# Altium footprint library NCP5623_LLGA12.PcbLib: 1 footprints
Each footprint in its own frame and in the unit in brackets; x right, y up, seen from the top. Pads: shape width x height; smd on the part's side, far side on the other; paste and mask are expansions set on the pad; w line width, h text height; cw(c..) or ccw(c..) is an arc to the next point about the centre after c.
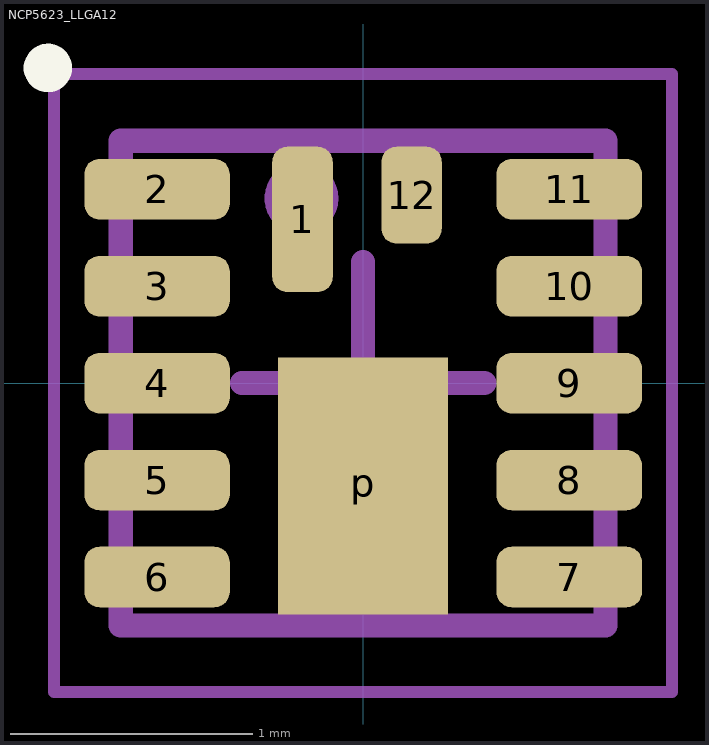
[diagram p0: the footprint, top view; thin cyan lines are the x and y axes]

## NCP5623_LLGA12 [mm]
height 0.6
pads (13):
  rrect50% 0.25x0.6 smd: 1(-0.25,0.675)
  rrect50% 0.6x0.25 smd: 2(-0.85,0.8) 3(-0.85,0.4) 4(-0.85,0) 5(-0.85,-0.4) 6(-0.85,-0.8) 7(0.85,-0.8) 8(0.85,-0.4) 9(0.85,0) 10(0.85,0.4) 11(0.85,0.8)
  rrect50% 0.25x0.4 smd: 12(0.2,0.775)
  rect 0.7x1.06 smd: p(0,-0.425)
Top Overlay:
  circle w0.1: c-1.3,1.3 r0.05
Top Assembly:
  circle w0.051: c-0.254,0.762 r0.127
  lines w0.1: -1,-1 1,-1 1,1 -1,1 -1,-1
Top Courtyard:
  lines w0.05: -1.275,-1.275 1.275,-1.275 1.275,1.275 -1.275,1.275 -1.275,-1.275
  lines w0.1: -0.5,0 0.5,0 ; 0,-0.5 0,0.5
3D body "User Library-NCP5623C.step": height 0.45, standoff -0.05, extent -1,-1 1,1